# Altium footprint library NRF24l01.PcbLib: 1 footprints
Each footprint in its own frame and in the unit in brackets; x right, y up, seen from the top. Pads: shape width x height; smd on the part's side, far side on the other; paste and mask are expansions set on the pad; w line width, h text height; cw(c..) or ccw(c..) is an arc to the next point about the centre after c.
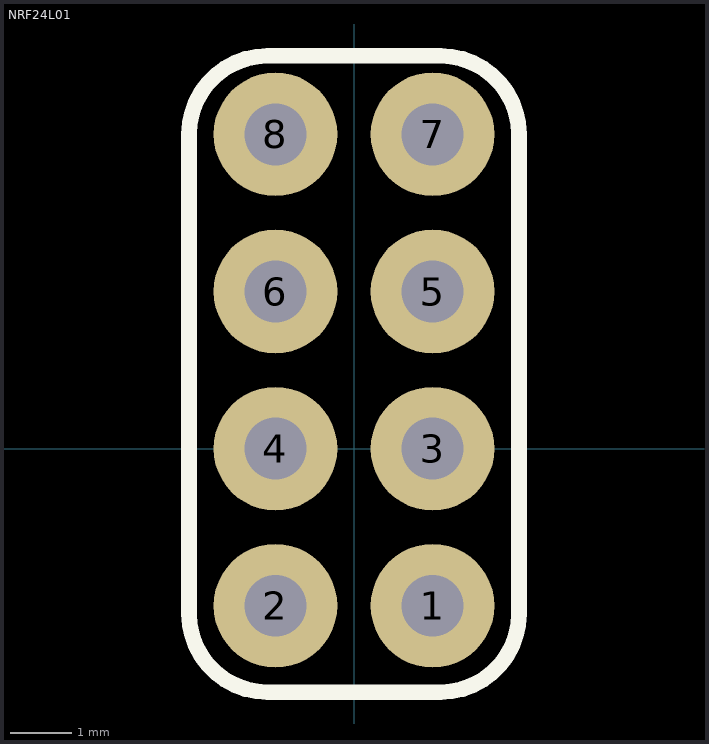
[diagram p0: the footprint, top view; thin cyan lines are the x and y axes]

## NRF24L01 [mm]
pads (8):
  round 2 hole 1: 1(1.27,-2.54) 2(-1.27,-2.54) 3(1.27,0) 4(-1.27,0) 5(1.27,2.54) 6(-1.27,2.54) 7(1.27,5.08) 8(-1.27,5.08)
Top Overlay:
  lines w0.254: -1.143,6.35 -1.397,6.35 ; -1.397,6.35 ccw(c-1.397,5.08) -2.667,5.08 -2.667,-2.667 ccw(c-1.397,-2.667) -1.397,-3.937 1.397,-3.937 ccw(c1.397,-2.667) 2.667,-2.667 2.667,5.08 ccw(c1.397,5.08) 1.397,6.35 -1.397,6.35